# EAGLE library part MAX232 (library custom-2002)
CONVERSOR RS232 - TTL
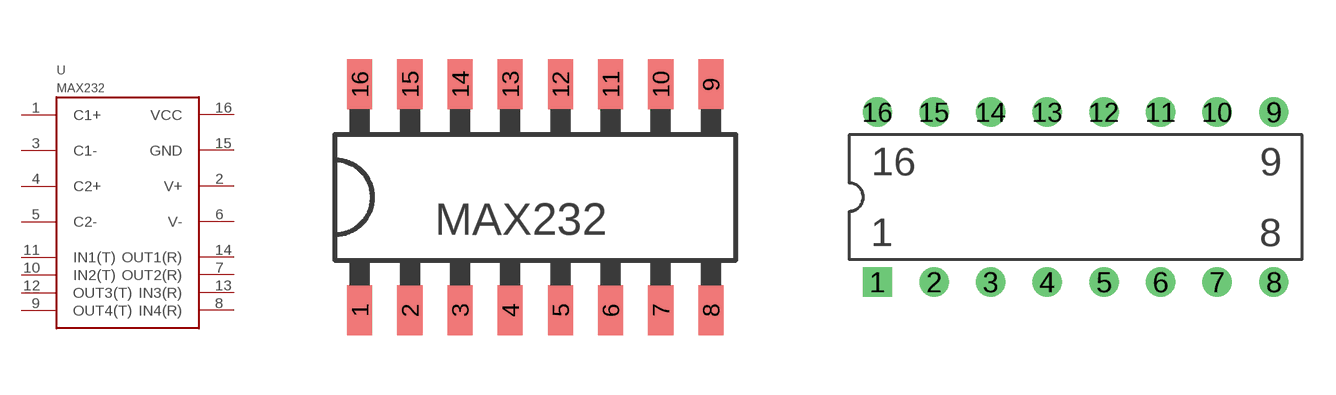
[diagram p3: symbol with the pads of SMD16; footprints SMD16, DIL16]

Designator prefix -

## MAX232SMD  [SMD16]
1  C1+
2  V+
3  C1-
4  C2+
5  C2-
6  V-
7  OUT2(R)
8  IN4(R)
9  OUT4(T)
10  IN2(T)
11  IN1(T)
12  OUT3(T)
13  IN3(R)
14  OUT1(R)
15  GND
16  VCC

## MAX232SDIP  [DIL16]
Pads as for SMD16

## Footprint SMD16 (pad centres in mm)
smd 0.635 x 1.27: 1 -3.81,-2.54; 2 -2.54,-2.54; 3 -1.27,-2.54; 4 0,-2.54; 5 1.27,-2.54; 6 2.54,-2.54; 7 3.81,-2.54; 8 5.08,-2.54; 9 5.08,3.175; 10 3.81,3.175; 11 2.54,3.175; 12 1.27,3.175; 13 0,3.175; 14 -1.27,3.175; 15 -2.54,3.175; 16 -3.81,3.175

## Footprint DIL16 (pad centres in mm)
drill 0.813 square: 1 0,0
drill 0.813 round: 2 2.54,0; 3 5.08,0; 4 7.62,0; 5 10.16,0; 6 12.7,0; 7 15.24,0; 8 17.78,0; 9 17.78,7.62; 10 15.24,7.62; 11 12.7,7.62; 12 10.16,7.62; 13 7.62,7.62; 14 5.08,7.62; 15 2.54,7.62; 16 0,7.62